# EAGLE library part 74*4051 (library IC)
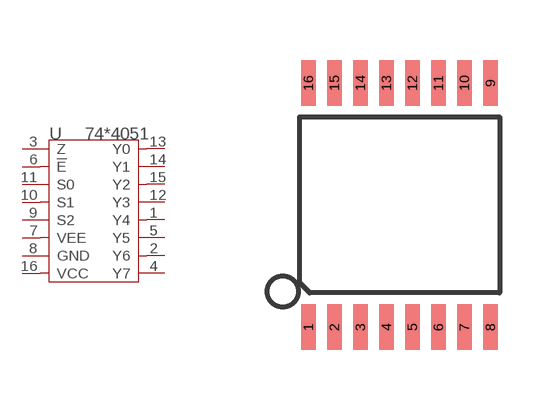
[diagram p171: symbol with the pads of TSSOP16-6.6; footprint TSSOP16-6.6]

Designator prefix U

## 744051-TSSOP, 74HC4051-TSSOP, 74HCT4051-TSSOP  [TSSOP16-6.6]
1  Y4
2  Y6
3  Z
4  Y7
5  Y5
6  !E
7  VEE
8  GND  sup
9  S2
10  S1
11  S0
12  Y3
13  Y0
14  Y1
15  Y2
16  VCC  pwr

## Footprint TSSOP16-6.6 (pad centres in mm)
smd 0.356 x 1.143: 1 -2.275,-3.052; 2 -1.625,-3.052; 3 -0.975,-3.052; 4 -0.325,-3.052; 5 0.325,-3.052; 6 0.975,-3.052; 7 1.625,-3.052; 8 2.275,-3.052; 9 2.275,3.052; 10 1.625,3.052; 11 0.975,3.052; 12 0.325,3.052; 13 -0.325,3.052; 14 -0.975,3.052; 15 -1.625,3.052; 16 -2.275,3.052